# EAGLE library part TRF7970A (library m_ic-comm)
The TRF7970A device is an integrated analog front end and data-framing device for a 13.56-MHz RFID and Near Field Communication (NFC) system. Built-in programming options make the device suitable for a wide range of applications for proximity and vicinity identification systems. The device can perform in one of three modes: RFID and NFC reader, NFC peer, or in card emulation mode. Built-in user-configurable programming options make the device suitable for a wide range of applications. The TRF7970A device is configured by selecting the desired protocol in the control registers. Direct access to all control registers allows fine tuning of various reader parameters as needed.
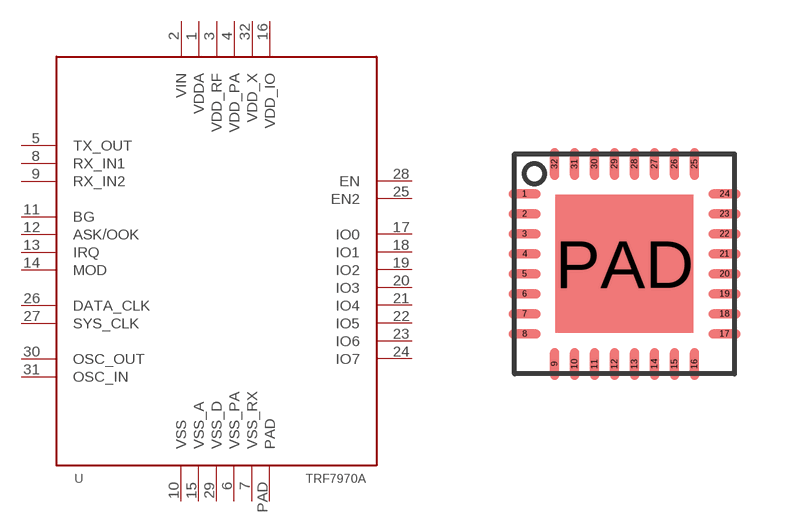
[diagram p5: symbol with the pads of S-PVQFN-N32; footprint S-PVQFN-N32]

Designator prefix U

## TRF7970A (MANUF: TEXAS INSTRUMENTS; PARTNUM: TRF7970A)  [S-PVQFN-N32]
1  VDDA
2  VIN
3  VDD_RF
4  VDD_PA
5  TX_OUT
6  VSS_PA
7  VSS_RX
8  RX_IN1
9  RX_IN2
10  VSS
11  BG
12  ASK/OOK
13  IRQ
14  MOD
15  VSS_A
16  VDD_IO
17  IO0
18  IO1
19  IO2
20  IO3
21  IO4
22  IO5
23  IO6
24  IO7
25  EN2
26  DATA_CLK
27  SYS_CLK
28  EN
29  VSS_D
30  OSC_OUT
31  OSC_IN
32  VDD_X
PAD  PAD

## Footprint S-PVQFN-N32 (pad centres in mm)
smd 0.8 x 0.23: 1 -2.5,1.75; 2 -2.5,1.25; 3 -2.5,0.75; 4 -2.5,0.25; 5 -2.5,-0.25; 6 -2.5,-0.75; 7 -2.5,-1.25; 8 -2.5,-1.75; 17 2.5,-1.75; 18 2.5,-1.25; 19 2.5,-0.75; 20 2.5,-0.25; 21 2.5,0.25; 22 2.5,0.75; 23 2.5,1.25; 24 2.5,1.75
smd 0.23 x 0.8: 9 -1.75,-2.5; 10 -1.25,-2.5; 11 -0.75,-2.5; 12 -0.25,-2.5; 13 0.25,-2.5; 14 0.75,-2.5; 15 1.25,-2.5; 16 1.75,-2.5; 25 1.75,2.5; 26 1.25,2.5; 27 0.75,2.5; 28 0.25,2.5; 29 -0.25,2.5; 30 -0.75,2.5; 31 -1.25,2.5; 32 -1.75,2.5
smd 3.45 x 3.45: PAD 0,0